# Altium schematic symbol library 472192001.SchLib: 1 symbol
Pins are listed as number, name and electrical type; pins without a type are passive.

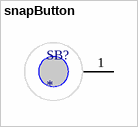
[diagram p0: symbol snapButton]

## snapButton
designator SB?
footprint snapConnector
pins: 1